# EAGLE library part LT5526 (library Neel)
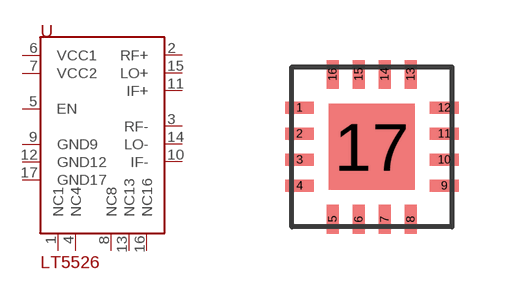
[diagram p35: symbol with the pads of QFN16-4X4; footprint QFN16-4X4]

Designator prefix -

## LT5526  [QFN16-4X4]
1  NC1
2  RF+
3  RF-
4  NC4
5  EN
6  VCC1
7  VCC2
8  NC8
9  GND9
10  IF-
11  IF+
12  GND12
13  NC13
14  LO-
15  LO+
16  NC16
17  GND17

## Footprint QFN16-4X4 (pad centres in mm)
smd 0.72 x 0.3: 1 -1.81,0.975; 2 -1.81,0.325; 3 -1.81,-0.325; 4 -1.81,-0.975; 9 1.81,-0.975; 10 1.81,-0.325; 11 1.81,0.325; 12 1.81,0.975
smd 0.3 x 0.72: 5 -0.975,-1.81; 6 -0.325,-1.81; 7 0.325,-1.81; 8 0.975,-1.81; 13 0.975,1.81; 14 0.325,1.81; 15 -0.325,1.81; 16 -0.975,1.81
smd 2.15 x 2.15: 17 0,0